# Altium footprint library ELKO_SMD_12.5X13.PcbLib: 1 footprints
Each footprint in its own frame and in the unit in brackets; x right, y up, seen from the top. Pads: shape width x height; smd on the part's side, far side on the other; paste and mask are expansions set on the pad; w line width, h text height; cw(c..) or ccw(c..) is an arc to the next point about the centre after c.
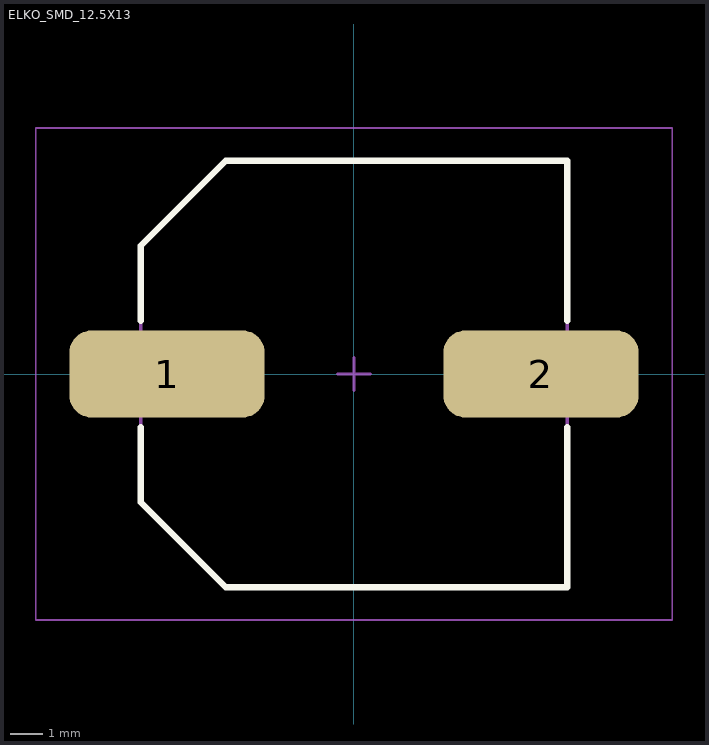
[diagram p0: the footprint, top view; thin cyan lines are the x and y axes]

## ELKO_SMD_12.5X13 [mm]
height 14
pads (2):
  rrect50% 5.95x2.65 smd: 1(-5.7,0) 2(5.7,0)
Top Overlay:
  lines w0.2: -6.5,-1.625 -6.5,-3.912 -3.912,-6.5 6.5,-6.5 6.5,-1.625 ; -6.5,1.625 -6.5,3.913 -3.912,6.5 6.5,6.5 6.5,1.625
Assembly Top:
  lines w0.1: -6.5,-3.912 -3.912,-6.5 6.5,-6.5 6.5,6.5 -3.912,6.5 -6.5,3.913 -6.5,-3.912
Courtyard Top:
  lines w0.05: -9.7,-7.5 -9.7,7.5 9.7,7.5 9.7,-7.5 -9.7,-7.5
  lines w0.1: -0.5,0 0.5,0 ; 0,-0.5 0,0.5
3D body "User Library-A3D-003-00018.STEP": height 13.5, standoff 0, extent -7.45,-6.75 7.45,6.75